# EAGLE library part AT32UCL016/32/64 (library tlcamera_rail_to_manufacture)
Atmel AVR32 family, AT32UCL016-64. In Timelapse Camera Rail 64kBit version is used.
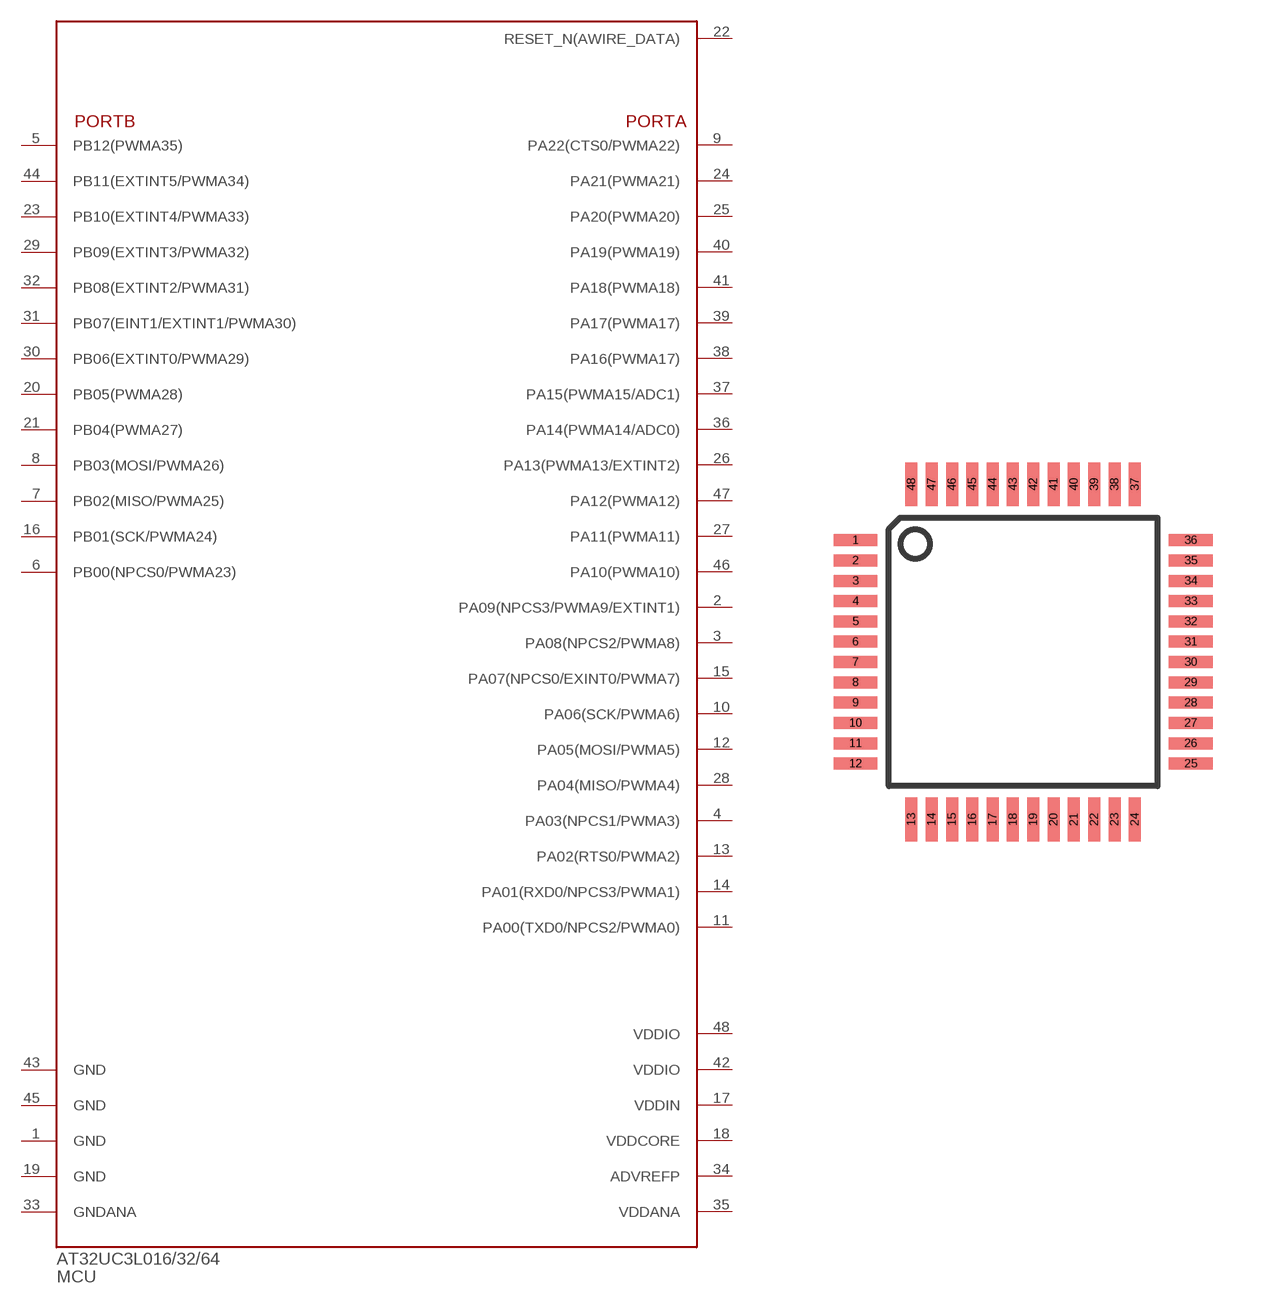
[diagram p0: symbol with the pads of TQFP48; footprint TQFP48]

Designator prefix MCU

## AT32UCL016/32/64_TQFP48 (DATASHEET: http://www.farnell.com/datasheets/731602.pdf; FARNELL: http://fi.farnell.com/atmel/at32uc3l032-aut/mcu-32bit-32k-flash-uc3l-48tqfp/dp/1841644)  [TQFP48]
1  GND
2  PA09(NPCS3/PWMA9/EXTINT1)
3  PA08(NPCS2/PWMA8)
4  PA03(NPCS1/PWMA3)
5  PB12(PWMA35)
6  PB00(NPCS0/PWMA23)
7  PB02(MISO/PWMA25)
8  PB03(MOSI/PWMA26)
9  PA22(CTS0/PWMA22)
10  PA06(SCK/PWMA6)
11  PA00(TXD0/NPCS2/PWMA0)
12  PA05(MOSI/PWMA5)
13  PA02(RTS0/PWMA2)
14  PA01(RXD0/NPCS3/PWMA1)
15  PA07(NPCS0/EXINT0/PWMA7)
16  PB01(SCK/PWMA24)
17  VDDIN
18  VDDCORE
19  GND
20  PB05(PWMA28)
21  PB04(PWMA27)
22  RESET_N(AWIRE_DATA)
23  PB10(EXTINT4/PWMA33)
24  PA21(PWMA21)
25  PA20(PWMA20)
26  PA13(PWMA13/EXTINT2)
27  PA11(PWMA11)
28  PA04(MISO/PWMA4)
29  PB09(EXTINT3/PWMA32)
30  PB06(EXTINT0/PWMA29)
31  PB07(EINT1/EXTINT1/PWMA30)
32  PB08(EXTINT2/PWMA31)
33  GNDANA
34  ADVREFP
35  VDDANA
36  PA14(PWMA14/ADC0)
37  PA15(PWMA15/ADC1)
38  PA16(PWMA17)
39  PA17(PWMA17)
40  PA19(PWMA19)
41  PA18(PWMA18)
42  VDDIO
43  GND
44  PB11(EXTINT5/PWMA34)
45  GND
46  PA10(PWMA10)
47  PA12(PWMA12)
48  VDDIO

## Footprint TQFP48 (pad centres in mm)
Thin Plasic Quad Flat Package
smd 1.1 x 0.3: 1 -4.191,2.794; 2 -4.191,2.286; 3 -4.191,1.778; 4 -4.191,1.27; 5 -4.191,0.762; 6 -4.191,0.254; 7 -4.191,-0.254; 8 -4.191,-0.762; 9 -4.191,-1.27; 10 -4.191,-1.778; 11 -4.191,-2.286; 12 -4.191,-2.794; 25 4.191,-2.794; 26 4.191,-2.286; 27 4.191,-1.778; 28 4.191,-1.27; 29 4.191,-0.762; 30 4.191,-0.254; 31 4.191,0.254; 32 4.191,0.762; 33 4.191,1.27; 34 4.191,1.778; 35 4.191,2.286; 36 4.191,2.794
smd 0.3 x 1.1: 13 -2.794,-4.191; 14 -2.286,-4.191; 15 -1.778,-4.191; 16 -1.27,-4.191; 17 -0.762,-4.191; 18 -0.254,-4.191; 19 0.254,-4.191; 20 0.762,-4.191; 21 1.27,-4.191; 22 1.778,-4.191; 23 2.286,-4.191; 24 2.794,-4.191; 37 2.794,4.191; 38 2.286,4.191; 39 1.778,4.191; 40 1.27,4.191; 41 0.762,4.191; 42 0.254,4.191; 43 -0.254,4.191; 44 -0.762,4.191; 45 -1.27,4.191; 46 -1.778,4.191; 47 -2.286,4.191; 48 -2.794,4.191